# Altium footprint library PCB Footprints.PcbLib: 316 footprints (part 10 of 21)
Each footprint in its own frame and in the unit in brackets; x right, y up, seen from the top. Pads: shape width x height; smd on the part's side, far side on the other; paste and mask are expansions set on the pad; w line width, h text height; cw(c..) or ccw(c..) is an arc to the next point about the centre after c.
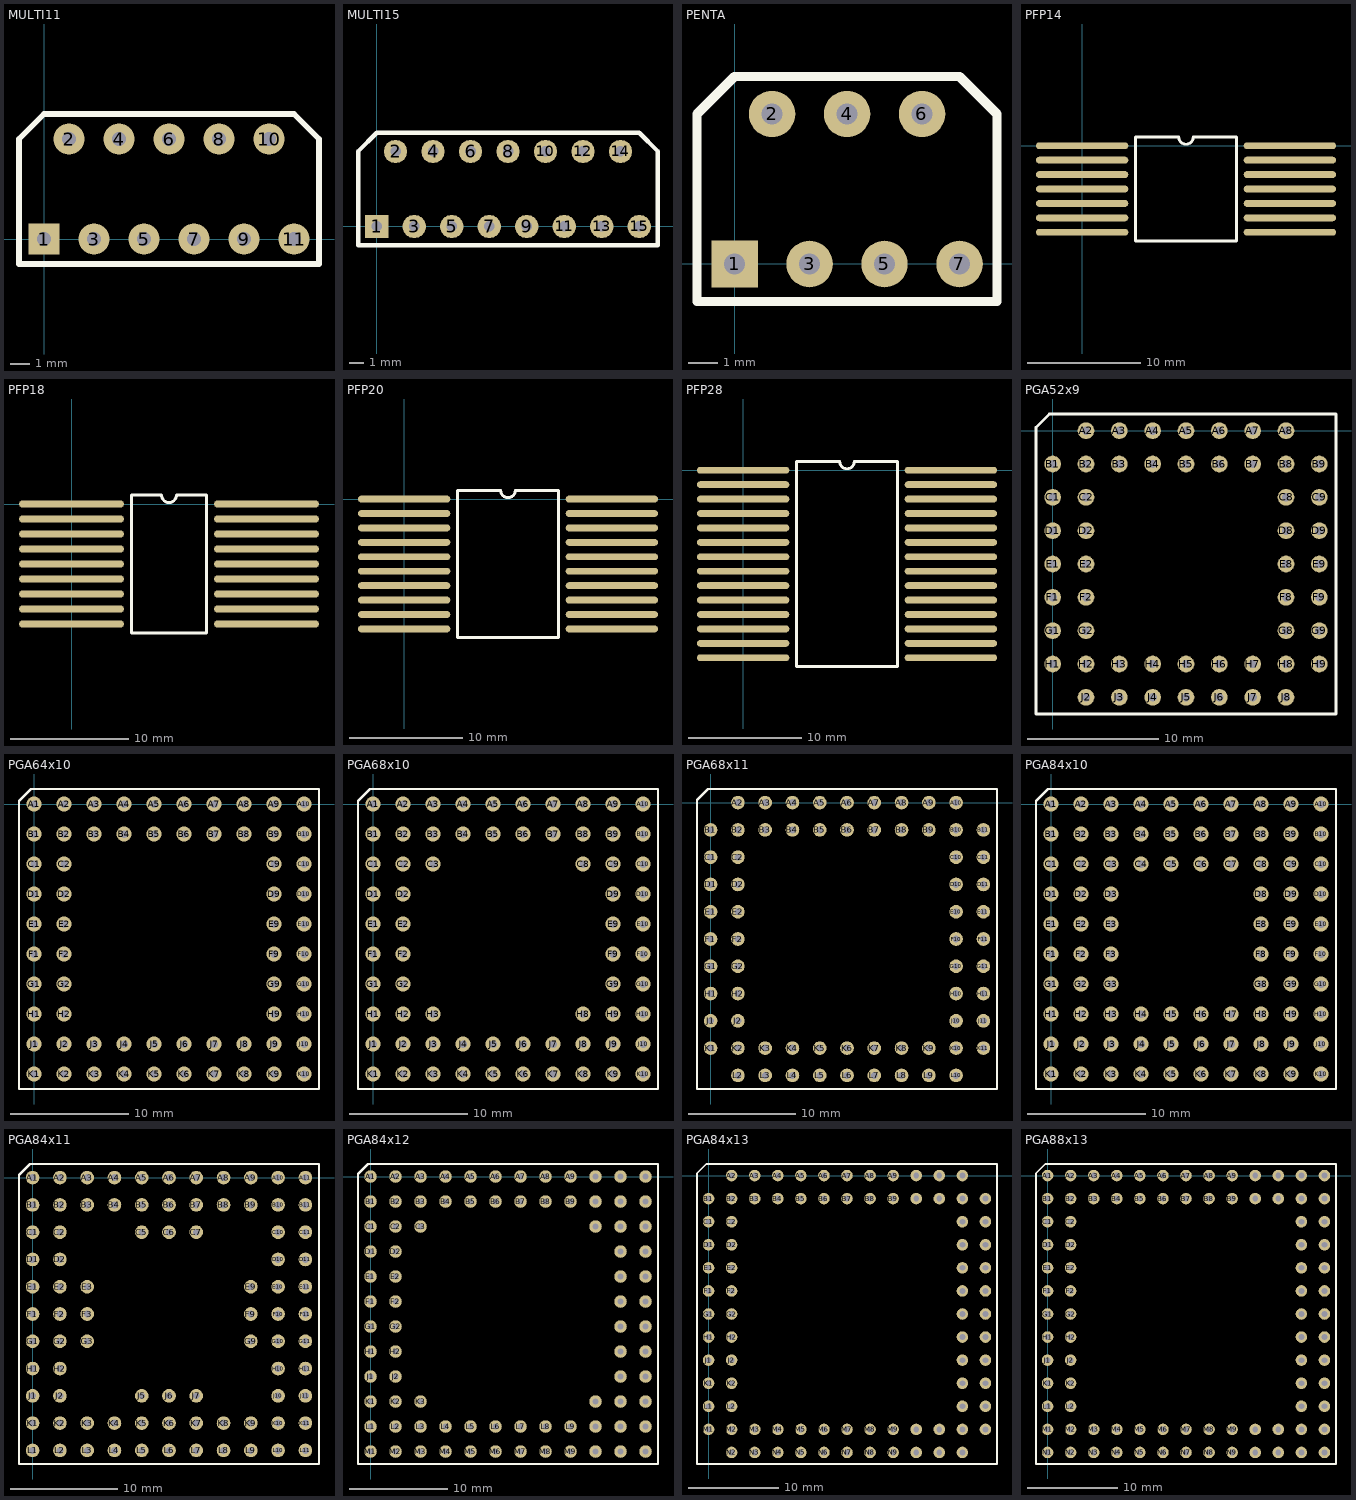
[diagram p9: the footprints below, top view; thin cyan lines are the x and y axes]

## MULTI11 [mil]
pads (11):
  rect 62x62 hole 28: 1(0,0)
  round 62 hole 28: 2(50,200) 3(100,0) 4(150,200) 5(200,0) 6(250,200) 7(300,0) 8(350,200) 9(400,0) 10(450,200) 11(500,0)
TopOverlay:
  lines w12: -50,-50 550,-50 550,200 500,250 0,250 -50,200 -50,-50

## MULTI15 [mil]
pads (15):
  rect 62x62 hole 28: 1(0,0)
  round 62 hole 28: 2(50,200) 3(100,0) 4(150,200) 5(200,0) 6(250,200) 7(300,0) 8(350,200) 9(400,0) 10(450,200) 11(500,0) 12(550,200) 13(600,0) 14(650,200) 15(700,0)
TopOverlay:
  lines w12: -50,-50 -50,200 0,250 700,250 750,200 750,-50 -50,-50

## PENTA [mil]
pads (7):
  rect 62x62 hole 28: 1(0,0)
  round 62 hole 28: 2(50,200) 3(100,0) 4(150,200) 5(200,0) 6(250,200) 7(300,0)
TopOverlay:
  lines w12: -50,-50 -50,200 0,250 300,250 350,200 350,-50 -50,-50

## PFP14 [mil]
pads (14):
  oval 320x24 smd: 1(0,0) 2(0,-50) 3(0,-100) 4(0,-150) 5(0,-200) 6(0,-250) 7(0,-300) 8(720,-300) 9(720,-250) 10(720,-200) 11(720,-150) 12(720,-100) 13(720,-50) 14(720,0)
TopOverlay:
  lines w10: 185,-330 185,30 335,30 ccw(c360,30) 385,30 535,30 535,-330 185,-330

## PFP18 [mil]
pads (18):
  oval 350x24 smd: 1(0,0) 2(0,-50) 3(0,-100) 4(0,-150) 5(0,-200) 6(0,-250) 7(0,-300) 8(0,-350) 9(0,-400) 10(650,-400) 11(650,-350) 12(650,-300) 13(650,-250) 14(650,-200) 15(650,-150) 16(650,-100) 17(650,-50) 18(650,0)
TopOverlay:
  lines w10: 200,-430 200,30 300,30 ccw(c325,30) 350,30 450,30 450,-430 200,-430

## PFP20 [mil]
pads (20):
  oval 320x24 smd: 1(0,0) 2(0,-50) 3(0,-100) 4(0,-150) 5(0,-200) 6(0,-250) 7(0,-300) 8(0,-350) 9(0,-400) 10(0,-450) 11(720,-450) 12(720,-400) 13(720,-350) 14(720,-300) 15(720,-250) 16(720,-200) 17(720,-150) 18(720,-100) 19(720,-50) 20(720,0)
TopOverlay:
  lines w10: 185,-480 185,30 335,30 ccw(c360,30) 385,30 535,30 535,-480 185,-480

## PFP28 [mil]
pads (28):
  oval 320x24 smd: 1(0,0) 2(0,-50) 3(0,-100) 4(0,-150) 5(0,-200) 6(0,-250) 7(0,-300) 8(0,-350) 9(0,-400) 10(0,-450) 11(0,-500) 12(0,-550) 13(0,-600) 14(0,-650) 15(720,-650) 16(720,-600) 17(720,-550) 18(720,-500) 19(720,-450) 20(720,-400) 21(720,-350) 22(720,-300) 23(720,-250) 24(720,-200) 25(720,-150) 26(720,-100) 27(720,-50) 28(720,0)
TopOverlay:
  lines w10: 185,-680 185,30 335,30 ccw(c360,30) 385,30 535,30 535,-680 185,-680

## PGA52x9 [mil]
pads (52):
  round 50 hole 25: A2(100,0) A3(200,0) A4(300,0) A5(400,0) A6(500,0) A7(600,0) A8(700,0) B1(0,-100) B2(100,-100) B3(200,-100) B4(300,-100) B5(400,-100) B6(500,-100) B7(600,-100) B8(700,-100) B9(800,-100) C1(0,-200) C2(100,-200) C8(700,-200) C9(800,-200) D1(0,-300) D2(100,-300) D8(700,-300) D9(800,-300) E1(0,-400) E2(100,-400) E8(700,-400) E9(800,-400) F1(0,-500) F2(100,-500) F8(700,-500) F9(800,-500) G1(0,-600) G2(100,-600) G8(700,-600) G9(800,-600) H1(0,-700) H2(100,-700) H3(200,-700) H4(300,-700) H5(400,-700) H6(500,-700) H7(600,-700) H8(700,-700) H9(800,-700) J2(100,-800) J3(200,-800) J4(300,-800) J5(400,-800) J6(500,-800) J7(600,-800) J8(700,-800)
TopOverlay:
  lines w8: -50,-850 -50,10 -10,50 850,50 850,-850 -50,-850

## PGA64x10 [mil]
pads (64):
  round 50 hole 25: A1(0,0) A2(100,0) A3(200,0) A4(300,0) A5(400,0) A6(500,0) A7(600,0) A8(700,0) A9(800,0) A10(900,0) B1(0,-100) B2(100,-100) B3(200,-100) B4(300,-100) B5(400,-100) B6(500,-100) B7(600,-100) B8(700,-100) B9(800,-100) B10(900,-100) C1(0,-200) C2(100,-200) C9(800,-200) C10(900,-200) D1(0,-300) D2(100,-300) D9(800,-300) D10(900,-300) E1(0,-400) E2(100,-400) E9(800,-400) E10(900,-400) F1(0,-500) F2(100,-500) F9(800,-500) F10(900,-500) G1(0,-600) G2(100,-600) G9(800,-600) G10(900,-600) H1(0,-700) H2(100,-700) H9(800,-700) H10(900,-700) J1(0,-800) J2(100,-800) J3(200,-800) J4(300,-800) J5(400,-800) J6(500,-800) J7(600,-800) J8(700,-800) J9(800,-800) J10(900,-800) K1(0,-900) K2(100,-900) K3(200,-900) K4(300,-900) K5(400,-900) K6(500,-900) K7(600,-900) K8(700,-900) K9(800,-900) K10(900,-900)
TopOverlay:
  lines w8: -50,-950 -50,10 -10,50 950,50 950,-950 -50,-950

## PGA68x10 [mil]
pads (68):
  round 50 hole 25: A1(0,0) A2(100,0) A3(200,0) A4(300,0) A5(400,0) A6(500,0) A7(600,0) A8(700,0) A9(800,0) A10(900,0) B1(0,-100) B2(100,-100) B3(200,-100) B4(300,-100) B5(400,-100) B6(500,-100) B7(600,-100) B8(700,-100) B9(800,-100) B10(900,-100) C1(0,-200) C2(100,-200) C3(200,-200) C8(700,-200) C9(800,-200) C10(900,-200) D1(0,-300) D2(100,-300) D9(800,-300) D10(900,-300) E1(0,-400) E2(100,-400) E9(800,-400) E10(900,-400) F1(0,-500) F2(100,-500) F9(800,-500) F10(900,-500) G1(0,-600) G2(100,-600) G9(800,-600) G10(900,-600) H1(0,-700) H2(100,-700) H3(200,-700) H8(700,-700) H9(800,-700) H10(900,-700) J1(0,-800) J2(100,-800) J3(200,-800) J4(300,-800) J5(400,-800) J6(500,-800) J7(600,-800) J8(700,-800) J9(800,-800) J10(900,-800) K1(0,-900) K2(100,-900) K3(200,-900) K4(300,-900) K5(400,-900) K6(500,-900) K7(600,-900) K8(700,-900) K9(800,-900) K10(900,-900)
TopOverlay:
  lines w8: -50,-950 950,-950 950,50 -10,50 -50,10 -50,-950

## PGA68x11 [mil]
pads (68):
  round 50 hole 25: A2(100,0) A3(200,0) A4(300,0) A5(400,0) A6(500,0) A7(600,0) A8(700,0) A9(800,0) A10(900,0) B1(0,-100) B2(100,-100) B3(200,-100) B4(300,-100) B5(400,-100) B6(500,-100) B7(600,-100) B8(700,-100) B9(800,-100) B10(900,-100) B11(1000,-100) C1(0,-200) C2(100,-200) C10(900,-200) C11(1000,-200) D1(0,-300) D2(100,-300) D10(900,-300) D11(1000,-300) E1(0,-400) E2(100,-400) E10(900,-400) E11(1000,-400) F1(0,-500) F2(100,-500) F10(900,-500) F11(1000,-500) G1(0,-600) G2(100,-600) G10(900,-600) G11(1000,-600) H1(0,-700) H2(100,-700) H10(900,-700) H11(1000,-700) J1(0,-800) J2(100,-800) J10(900,-800) J11(1000,-800) K1(0,-900) K2(100,-900) K3(200,-900) K4(300,-900) K5(400,-900) K6(500,-900) K7(600,-900) K8(700,-900) K9(800,-900) K10(900,-900) K11(1000,-900) L2(100,-1000) L3(200,-1000) L4(300,-1000) L5(400,-1000) L6(500,-1000) L7(600,-1000) L8(700,-1000) L9(800,-1000) L10(900,-1000)
TopOverlay:
  lines w8: -50,-1050 -50,10 -10,50 1050,50 1050,-1050 -50,-1050

## PGA84x10 [mil]
pads (84):
  round 50 hole 25: A1(0,0) A2(100,0) A3(200,0) A4(300,0) A5(400,0) A6(500,0) A7(600,0) A8(700,0) A9(800,0) A10(900,0) B1(0,-100) B2(100,-100) B3(200,-100) B4(300,-100) B5(400,-100) B6(500,-100) B7(600,-100) B8(700,-100) B9(800,-100) B10(900,-100) C1(0,-200) C2(100,-200) C3(200,-200) C4(300,-200) C5(400,-200) C6(500,-200) C7(600,-200) C8(700,-200) C9(800,-200) C10(900,-200) D1(0,-300) D2(100,-300) D3(200,-300) D8(700,-300) D9(800,-300) D10(900,-300) E1(0,-400) E2(100,-400) E3(200,-400) E8(700,-400) E9(800,-400) E10(900,-400) F1(0,-500) F2(100,-500) F3(200,-500) F8(700,-500) F9(800,-500) F10(900,-500) G1(0,-600) G2(100,-600) G3(200,-600) G8(700,-600) G9(800,-600) G10(900,-600) H1(0,-700) H2(100,-700) H3(200,-700) H4(300,-700) H5(400,-700) H6(500,-700) H7(600,-700) H8(700,-700) H9(800,-700) H10(900,-700) J1(0,-800) J2(100,-800) J3(200,-800) J4(300,-800) J5(400,-800) J6(500,-800) J7(600,-800) J8(700,-800) J9(800,-800) J10(900,-800) K1(0,-900) K2(100,-900) K3(200,-900) K4(300,-900) K5(400,-900) K6(500,-900) K7(600,-900) K8(700,-900) K9(800,-900) K10(900,-900)
TopOverlay:
  lines w8: -50,-950 -50,10 -10,50 950,50 950,-950 -50,-950

## PGA84x11 [mil]
pads (84):
  round 50 hole 25: A1(0,0) A2(100,0) A3(200,0) A4(300,0) A5(400,0) A6(500,0) A7(600,0) A8(700,0) A9(800,0) A10(900,0) A11(1000,0) B1(0,-100) B2(100,-100) B3(200,-100) B4(300,-100) B5(400,-100) B6(500,-100) B7(600,-100) B8(700,-100) B9(800,-100) B10(900,-100) B11(1000,-100) C1(0,-200) C2(100,-200) C5(400,-200) C6(500,-200) C7(600,-200) C10(900,-200) C11(1000,-200) D1(0,-300) D2(100,-300) D10(900,-300) D11(1000,-300) E1(0,-400) E2(100,-400) E3(200,-400) E9(800,-400) E10(900,-400) E11(1000,-400) F1(0,-500) F2(100,-500) F3(200,-500) F9(800,-500) F10(900,-500) F11(1000,-500) G1(0,-600) G2(100,-600) G3(200,-600) G9(800,-600) G10(900,-600) G11(1000,-600) H1(0,-700) H2(100,-700) H10(900,-700) H11(1000,-700) J1(0,-800) J2(100,-800) J5(400,-800) J6(500,-800) J7(600,-800) J10(900,-800) J11(1000,-800) K1(0,-900) K2(100,-900) K3(200,-900) K4(300,-900) K5(400,-900) K6(500,-900) K7(600,-900) K8(700,-900) K9(800,-900) K10(900,-900) K11(1000,-900) L1(0,-1000) L2(100,-1000) L3(200,-1000) L4(300,-1000) L5(400,-1000) L6(500,-1000) L7(600,-1000) L8(700,-1000) L9(800,-1000) L10(900,-1000) L11(1000,-1000)
TopOverlay:
  lines w8: -50,-1050 -50,10 -10,50 1050,50 1050,-1050 -50,-1050

## PGA84x12 [mil]
pads (84):
  round 50 hole 25: A1(0,0) A2(100,0) A3(200,0) A4(300,0) A5(400,0) A6(500,0) A7(600,0) A8(700,0) A9(800,0) A10(900,0) A11(1000,0) A12(1100,0) B1(0,-100) B2(100,-100) B3(200,-100) B4(300,-100) B5(400,-100) B6(500,-100) B7(600,-100) B8(700,-100) B9(800,-100) B10(900,-100) B11(1000,-100) B12(1100,-100) C1(0,-200) C2(100,-200) C3(200,-200) C10(900,-200) C11(1000,-200) C12(1100,-200) D1(0,-300) D2(100,-300) D11(1000,-300) D12(1100,-300) E1(0,-400) E2(100,-400) E11(1000,-400) E12(1100,-400) F1(0,-500) F2(100,-500) F11(1000,-500) F12(1100,-500) G1(0,-600) G2(100,-600) G11(1000,-600) G12(1100,-600) H1(0,-700) H2(100,-700) H11(1000,-700) H12(1100,-700) J1(0,-800) J2(100,-800) J11(1000,-800) J12(1100,-800) K1(0,-900) K2(100,-900) K3(200,-900) K10(900,-900) K11(1000,-900) K12(1100,-900) L1(0,-1000) L2(100,-1000) L3(200,-1000) L4(300,-1000) L5(400,-1000) L6(500,-1000) L7(600,-1000) L8(700,-1000) L9(800,-1000) L10(900,-1000) L11(1000,-1000) L12(1100,-1000) M1(0,-1100) M2(100,-1100) M3(200,-1100) M4(300,-1100) M5(400,-1100) M6(500,-1100) M7(600,-1100) M8(700,-1100) M9(800,-1100) M10(900,-1100) M11(1000,-1100) M12(1100,-1100)
TopOverlay:
  lines w8: -50,-1150 -50,10 -10,50 1150,50 1150,-1150 -50,-1150

## PGA84x13 [mil]
pads (84):
  round 50 hole 25: A2(100,0) A3(200,0) A4(300,0) A5(400,0) A6(500,0) A7(600,0) A8(700,0) A9(800,0) A10(900,0) A11(1000,0) A12(1100,0) B1(0,-100) B2(100,-100) B3(200,-100) B4(300,-100) B5(400,-100) B6(500,-100) B7(600,-100) B8(700,-100) B9(800,-100) B10(900,-100) B11(1000,-100) B12(1100,-100) B13(1200,-100) C1(0,-200) C2(100,-200) C12(1100,-200) C13(1200,-200) D1(0,-300) D2(100,-300) D12(1100,-300) D13(1200,-300) E1(0,-400) E2(100,-400) E12(1100,-400) E13(1200,-400) F1(0,-500) F2(100,-500) F12(1100,-500) F13(1200,-500) G1(0,-600) G2(100,-600) G12(1100,-600) G13(1200,-600) H1(0,-700) H2(100,-700) H12(1100,-700) H13(1200,-700) J1(0,-800) J2(100,-800) J12(1100,-800) J13(1200,-800) K1(0,-900) K2(100,-900) K12(1100,-900) K13(1200,-900) L1(0,-1000) L2(100,-1000) L12(1100,-1000) L13(1200,-1000) M1(0,-1100) M2(100,-1100) M3(200,-1100) M4(300,-1100) M5(400,-1100) M6(500,-1100) M7(600,-1100) M8(700,-1100) M9(800,-1100) M10(900,-1100) M11(1000,-1100) M12(1100,-1100) M13(1200,-1100) N2(100,-1200) N3(200,-1200) N4(300,-1200) N5(400,-1200) N6(500,-1200) N7(600,-1200) N8(700,-1200) N9(800,-1200) N10(900,-1200) N11(1000,-1200) N12(1100,-1200)
TopOverlay:
  lines w8: -50,-1250 -50,10 -10,50 1250,50 1250,-1250 -50,-1250

## PGA88x13 [mil]
pads (88):
  round 50 hole 25: A1(0,0) A2(100,0) A3(200,0) A4(300,0) A5(400,0) A6(500,0) A7(600,0) A8(700,0) A9(800,0) A10(900,0) A11(1000,0) A12(1100,0) A13(1200,0) B1(0,-100) B2(100,-100) B3(200,-100) B4(300,-100) B5(400,-100) B6(500,-100) B7(600,-100) B8(700,-100) B9(800,-100) B10(900,-100) B11(1000,-100) B12(1100,-100) B13(1200,-100) C1(0,-200) C2(100,-200) C12(1100,-200) C13(1200,-200) D1(0,-300) D2(100,-300) D12(1100,-300) D13(1200,-300) E1(0,-400) E2(100,-400) E12(1100,-400) E13(1200,-400) F1(0,-500) F2(100,-500) F12(1100,-500) F13(1200,-500) G1(0,-600) G2(100,-600) G12(1100,-600) G13(1200,-600) H1(0,-700) H2(100,-700) H12(1100,-700) H13(1200,-700) J1(0,-800) J2(100,-800) J12(1100,-800) J13(1200,-800) K1(0,-900) K2(100,-900) K12(1100,-900) K13(1200,-900) L1(0,-1000) L2(100,-1000) L12(1100,-1000) L13(1200,-1000) M1(0,-1100) M2(100,-1100) M3(200,-1100) M4(300,-1100) M5(400,-1100) M6(500,-1100) M7(600,-1100) M8(700,-1100) M9(800,-1100) M10(900,-1100) M11(1000,-1100) M12(1100,-1100) M13(1200,-1100) N1(0,-1200) N2(100,-1200) N3(200,-1200) N4(300,-1200) N5(400,-1200) N6(500,-1200) N7(600,-1200) N8(700,-1200) N9(800,-1200) N10(900,-1200) N11(1000,-1200) N12(1100,-1200) N13(1200,-1200)
TopOverlay:
  lines w8: -50,-1250 -50,10 -10,50 1250,50 1250,-1250 -50,-1250